# Altium footprint library lm3886 PcbLib.PcbLib: 19 footprints (part 2 of 2)
Each footprint in its own frame and in the unit in brackets; x right, y up, seen from the top. Pads: shape width x height; smd on the part's side, far side on the other; paste and mask are expansions set on the pad; w line width, h text height; cw(c..) or ccw(c..) is an arc to the next point about the centre after c.
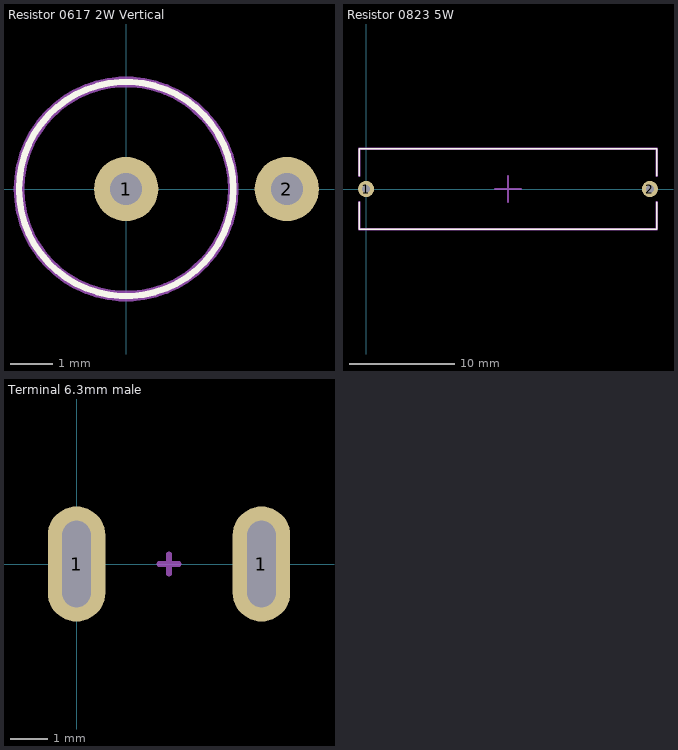
[diagram p1: the footprints below, top view; thin cyan lines are the x and y axes]

## Resistor 0617 2W Vertical [mil]
pads (2):
  round 60 hole 30: 1(0,0) 2(150,0)
Top Overlay:
  circle w5.91: c0,0 r100
Top Assembly:
  circle w5.91: c0,0 r100
Top Courtyard:
  circle w10: c0,0 r100
3D body: height 608.35, standoff 0, extent -87.48,-87.48 87.48,87.48
3D body: height 100, standoff 0, extent -100,-100 100,100
3D body: height 608.35, standoff 508.35, extent -100,-100 100,100
3D body: height 708.35, standoff -100, extent 140,-10 160,10
3D body: height 708.35, standoff -100, extent -10,-10 10,10
3D body: height 718.35, standoff 698.35, extent 0,-10 150,10

## Resistor 0823 5W [mil]
pads (2):
  round 60 hole 30: 1(0,0) 2(1060.63,0)
Top Overlay:
  lines w5.91: -25,-50 -25,-150 1085.63,-150 1085.63,-50 ; -25,50 -25,150 1085.63,150 1085.63,50
Top Assembly:
  lines w5.91: -25,-50 -25,-150 1085.63,-150 1085.63,-50 ; -25,50 -25,150 1085.63,150 1085.63,50
Top Courtyard:
  lines w10: -25,-50 -25,-150 1085.63,-150 1085.63,-50 ; -25,50 -25,150 1085.63,150 1085.63,50
Top Component Center:
  lines w5.91: 480.31,0 580.32,0 ; 530.32,-50 530.32,50
3D body: height 300, standoff 0, extent 60,-150 210,150
3D body: height 300, standoff 0, extent 860,-150 1010,150
3D body: height 150, standoff -100, extent -9.84,-9.84 9.84,9.84
3D body: height 150, standoff -100, extent 1045.79,-9.84 1065.47,9.84
3D body: height 159.84, standoff 140.16, extent 980.63,-9.84 1055.63,9.84
3D body: height 159.84, standoff 140.16, extent 0,-9.84 75,9.84
3D body: height 274.98, standoff -0.02, extent 60,-135 1010,140

## Terminal 6.3mm male [mil]
pads (2):
  oval 60x120 hole 30 slot 90 at 90 deg: 1(0,0) 1(192.91,0)
Top Component Center:
  lines w5.91: 86.46,0 106.46,0 ; 96.46,-10 96.46,10